# Altium schematic symbol library TFT-S95517.Schlib: 1 symbol
Pins are listed as number, name and electrical type; pins without a type are passive.

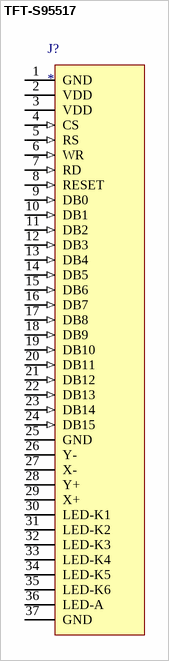
[diagram p0: symbol TFT-S95517]

## TFT-S95517
designator J?
pins: 1 GND (power), 2 VDD (power), 3 VDD (power), 4 CS (in), 5 RS (in), 6 WR (in), 7 RD (in), 8 RESET (in), 9 DB0 (in), 10 DB1 (in), 11 DB2 (in), 12 DB3 (in), 13 DB4 (in), 14 DB5 (in), 15 DB6 (in), 16 DB7 (in), 17 DB8 (in), 18 DB9 (in), 19 DB10 (in), 20 DB11 (in), 21 DB12 (in), 22 DB13 (in), 23 DB14 (in), 24 DB15 (in), 25 GND (power), 26 Y-, 27 X-, 28 Y+, 29 X+, 30 LED-K1, 31 LED-K2, 32 LED-K3, 33 LED-K4, 34 LED-K5, 35 LED-K6, 36 LED-A, 37 GND